# EAGLE library part MMPQ3904 (library MMPQ3904)
ON Semi MMPQ3904 Quad NPN Transistor, 200 mA, 40 V, 16-Pin SOIC Source: Datasheet <http://www.onsemi.com/pub_link/Collateral/MMPQ3904-D.PDF>
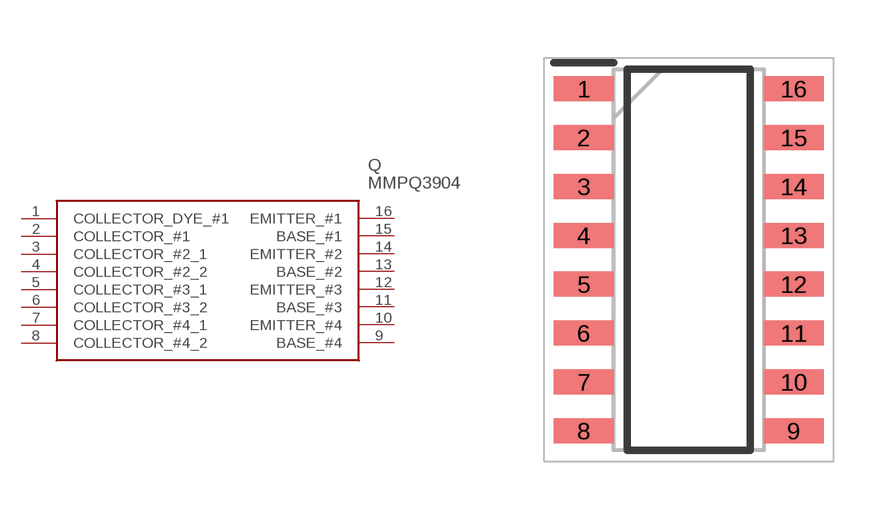
[diagram p0: symbol with the pads of SOIC127P600X175-16N; footprint SOIC127P600X175-16N]

Designator prefix Q

## MMPQ3904 (Description: ON Semi MMPQ3904 Quad NPN Transistor, 200 mA, 40 V, 16-Pin SOIC; Height: 1.75mm; Manufacturer_Name: onsemi; Manufacturer_Part_Number: MMPQ3904; Mouser_Part_Number: 512-MMPQ3904; Mouser_Price-Stock: https://www.mouser.co.uk/ProductDetail/onsemi-Fairchild/MMPQ3904?qs=SSucg2PyLi5H3QPy2I7RHw%3D%3D)  [SOIC127P600X175-16N]
1  COLLECTOR_DYE_#1
2  COLLECTOR_#1
3  COLLECTOR_#2_1
4  COLLECTOR_#2_2
5  COLLECTOR_#3_1
6  COLLECTOR_#3_2
7  COLLECTOR_#4_1
8  COLLECTOR_#4_2
9  BASE_#4
10  EMITTER_#4
11  BASE_#3
12  EMITTER_#3
13  BASE_#2
14  EMITTER_#2
15  BASE_#1
16  EMITTER_#1

## Footprint SOIC127P600X175-16N (pad centres in mm)
SO-16 CASE 751B-05 ISSUE J
smd 1.55 x 0.65: 1 -2.725,4.445; 2 -2.725,3.175; 3 -2.725,1.905; 4 -2.725,0.635; 5 -2.725,-0.635; 6 -2.725,-1.905; 7 -2.725,-3.175; 8 -2.725,-4.445; 9 2.725,-4.445; 10 2.725,-3.175; 11 2.725,-1.905; 12 2.725,-0.635; 13 2.725,0.635; 14 2.725,1.905; 15 2.725,3.175; 16 2.725,4.445